# Altium schematic symbol library BlocBatteries.SCHLIB: 28 symbols
Pins are listed as number, name and electrical type; pins without a type are passive.

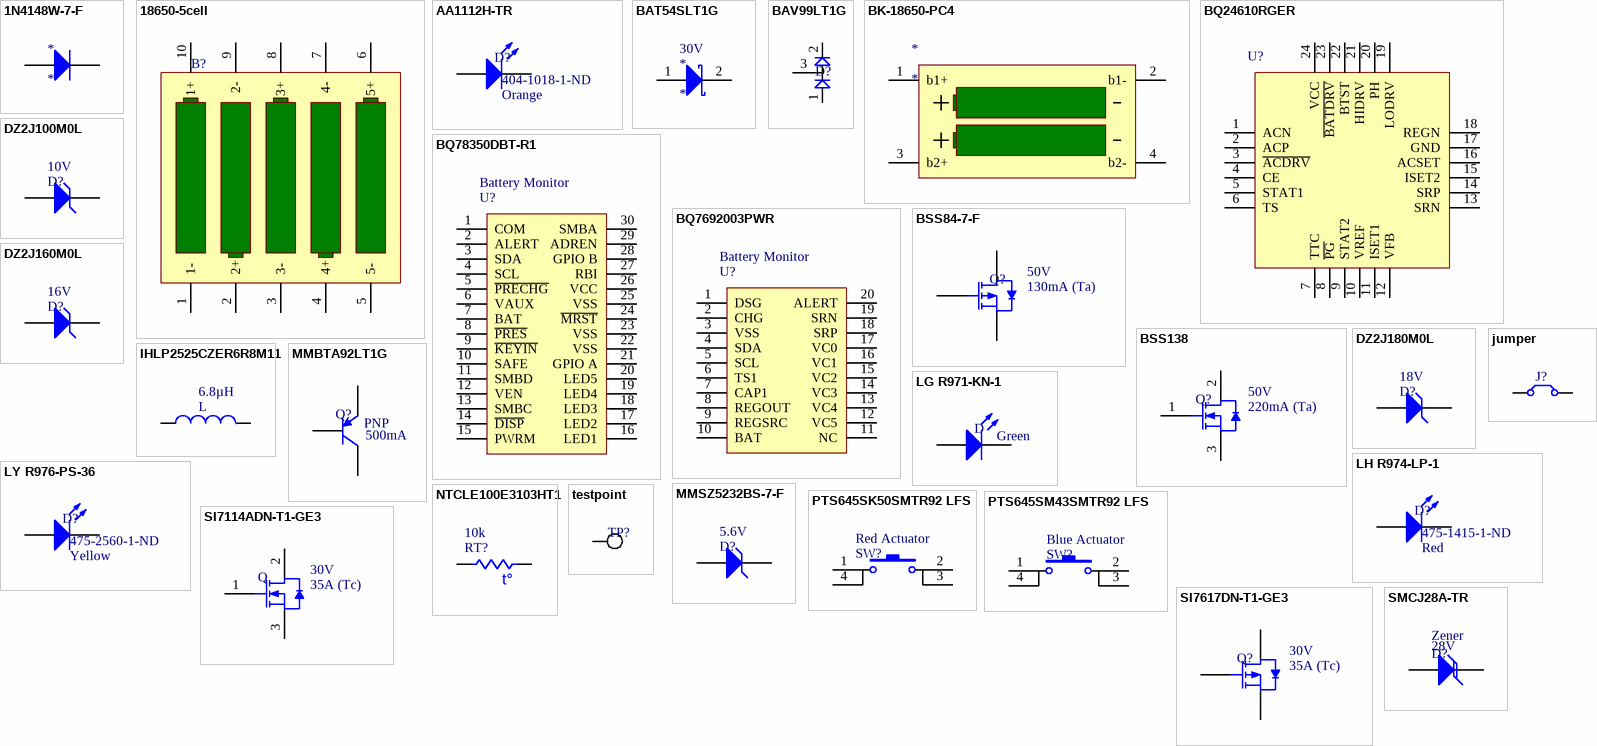
[diagram p0: symbols 1N4148W-7-F to testpoint]

## 1N4148W-7-F
designator *
DIODE GEN PURP 100V 300MA SOD123; Manufacturer: Diodes Incorporated; Manufacturer Part Number: 1N4148W-7-F; Diode Type: Standard; Current - Average Rectified (Io): 300mA (DC); Voltage - Forward (Vf) (Max) @ If: 1.25V @ 150mA; Speed: Small Signal =< 200mA (Io), Any Speed; Reverse Recovery Time (trr): 4ns; Current - Reverse Leakage @ Vr: 1µA @ 75V; Capacitance @ Vr, F: 2pF @ 0V, 1MHz; Supplier 1: Digi-Key; Supplier Part Number 1: 1N4148W-FDICT-ND; RoHS: RoHS Compliant; Category: Discrete Semiconductor Products; Stock 1: 876946; Pricing 1: 1=0.23, 10=0.212, 100=0.1153, 500=0.07086, 1000=0.04833 (CAD); Packaging: Cut Tape (CT); Voltage - DC Reverse (Vr) (Max): 100V; Mounting Type: Surface Mount; Package / Case: SOD-123; Supplier Device Package: SOD-123; Operating Temperature - Junction: -65°C ~ 150°C; ComponentLink1URL: http://www.diodes.com/_files/datasheets/ds30086.pdf; ComponentLink1Description: http://www.diodes.com/_files/datasheets/ds30086.pdf
footprint SOD123 (Molded Diode, 2-Leads, Body 2,70x1,55mm, IPC Medium Density)
pins: 1 A, 2 K

## 18650-5cell
designator B?
BATT LI-ION 5 CELL; Battery Cell Size: 18650
pins: 1 1-, 2 2+, 3 3-, 4 4+, 5 5-, 6 5+, 7 4-, 8 3+, 9 2-, 10 1+

## AA1112H-TR
designator D?  Supplier Part Number 1: 404-1018-1-ND  Color: Orange  (hidden comment: *)
LED ORANGE DIFFUSED 0805 SMD; Manufacturer: Stanley Electric Co; Manufacturer Part Number: AA1112H-TR; Lens Color: White; Millicandela Rating: 3.7mcd; Lens Style/Size: Rectangle with Flat Top, 1.20mm x 1.25mm; Voltage - Forward (Vf) (Typ): 2.2V; Current - Test: 20mA; Viewing Angle: 153°, 154°; Wavelength - Dominant: 606nm; Wavelength - Peak: 605nm; Supplier 1: Digi-Key; RoHS: RoHS Compliant; Category: Optoelectronics; Stock 1: 7828; Pricing 1: 1=0.65, 10=0.458, 25=0.3752, 100=0.3003, 250=0.2252, 1000=0.16379 (CAD); Packaging: Cut Tape (CT); Lens Transparency: Diffused; Mounting Type: Surface Mount; Features: -; Package / Case: 0805 (2012 Metric); Supplier Device Package: 2125; Size / Dimension: 2.00mm L x 1.25mm W; Height (Max): 0.90mm; ComponentLink1URL: http://media.digikey.com/pdf/Data%20Sheets/Stanley%20Electric%20PDFs/BR1112H.pdf; ComponentLink1Description: http://media.digikey.com/pdf/Data%20Sheets/Stanley%20Electric%20PDFs/BR1112H.pdf
footprint 0805 (Chip Capacitor, 2-Leads, Body 2,00x1,25mm, IPC Medium Density)
pins: 1 A, 2 K

## BAT54SLT1G
designator *  Voltage - DC Reverse (Vr) (Max): 30V
DIODE ARRAY SCHOTTKY 30V SOT23-3; Manufacturer: ON Semiconductor; Manufacturer Part Number: BAT54SLT1G; Diode Configuration: 1 Pair Series Connection; Current - Average Rectified (Io) (per Diode): 200mA (DC); Voltage - Forward (Vf) (Max) @ If: 800mV @ 100mA; Speed: Small Signal =< 200mA (Io), Any Speed; Reverse Recovery Time (trr): 5ns; Current - Reverse Leakage @ Vr: 2µA @ 25V; Supplier 1: Digi-Key; Supplier Part Number 1: BAT54SLT1GOSCT-ND; RoHS: RoHS Compliant; Category: Discrete Semiconductor Products; Stock 1: 85691; Pricing 1: 1=0.24, 10=0.225, 100=0.1226, 500=0.07536, 1000=0.0514 (CAD); Packaging: Cut Tape (CT); Diode Type: Schottky; Mounting Type: Surface Mount; Package / Case: TO-236-3, SC-59, SOT-23-3; Supplier Device Package: SOT-23-3 (TO-236); ComponentLink1URL: http://www.onsemi.com/pub_link/Collateral/BAT54SLT1-D.PDF; ComponentLink1Description: http://www.onsemi.com/pub_link/Collateral/BAT54SLT1-D.PDF
footprint SOT-23-3 (SOT23, 3-Leads, Body 2,90x2,45mm, Pitch 0,95mm, IPC Medium Density)
pins: 1 A, 2 K

## BAV99LT1G
designator D?  (value not drawn)
DIODE ARRAY GP 70V 215MA SOT23-3; Manufacturer: ON Semiconductor; Manufacturer Part Number: BAV99LT1G; Diode Configuration: 1 Pair Series Connection; Diode Type: Standard; Current - Average Rectified (Io) (per Diode): 215mA (DC); Voltage - Forward (Vf) (Max) @ If: 1.25V @ 150mA; Speed: Fast Recovery =< 500ns, > 200mA (Io); Reverse Recovery Time (trr): 6ns; Current - Reverse Leakage @ Vr: 2.5µA @ 70V; Supplier 1: Digi-Key; Supplier Part Number 1: BAV99LT1GOSCT-ND; RoHS: RoHS Compliant; Category: Discrete Semiconductor Products; Stock 1: 204227; Pricing 1: 1=0.17, 10=0.158, 100=0.0859, 500=0.0528, 1000=0.03603 (CAD); Packaging: Cut Tape (CT); Voltage - DC Reverse (Vr) (Max): 70V; Mounting Type: Surface Mount; Package / Case: TO-236-3, SC-59, SOT-23-3; Supplier Device Package: SOT-23-3 (TO-236); ComponentLink1URL: http://www.onsemi.com/pub_link/Collateral/BAV99LT1-D.PDF; ComponentLink1Description: http://www.onsemi.com/pub_link/Collateral/BAV99LT1-D.PDF
footprint SOT-23-3 (SOT23, 3-Leads, Body 2,90x2,45mm, Pitch 0,95mm, IPC Medium Density)
pins: 1 bottom, 2 top, 3 center

## BK-18650-PC4
designator *
HOLDER BATT LI-ION 2CELL 4PC PIN; Manufacturer: MPD (Memory Protection Devices); Manufacturer Part Number: BK-18650-PC4; Battery Type, Function: Cylindrical, Holder; Style: Holder (Open); Battery Cell Size: 18650; Number of Cells: 2; Supplier 1: Digi-Key; Supplier Part Number 1: BK-18650-PC4-ND; RoHS: RoHS Compliant; Category: Battery Products; Stock 1: 1925; Pricing 1: 1=6.37, 10=5.9, 100=5.3175, 500=4.67772, 1000=4.16587 (CAD); Battery Series: -; Mounting Type: PCB, Through Hole; Termination Style: PC Pin; Height Above Board: 0.848" (21.54mm); Operating Temperature: -; ComponentLink1URL: http://www.memoryprotectiondevices.com/datasheets/BK-18650-PC4-datasheet.pdf; ComponentLink1Description: http://www.memoryprotectiondevices.com/datasheets/BK-18650-PC4-datasheet.pdf
footprint BK-18650 (2cell holder for 18650 li-ion batt)
pins: 1 b1+, 2 b1-, 3 b2+, 4 b2-

## BQ24610RGER
designator U?  (value not drawn)
IC SYNC SW-MODE BAT CHRGR 24VQFN; Manufacturer: Texas Instruments; Manufacturer Part Number: BQ24610RGER; Battery Chemistry: Lithium-Ion/Polymer; Number of Cells: 1 ~ 6; Current - Charging: Constant - Programmable; Programmable Features: Current; Fault Protection: Over Current, Over Temperature, Over Voltage, Short Circuit; Charge Current - Max: 10A; Battery Pack Voltage: 2.1V; Voltage - Supply (Max): 28V; Supplier 1: Digi-Key; Supplier Part Number 1: 296-29437-1-ND; RoHS: RoHS Compliant; Category: Integrated Circuits (ICs); Stock 1: 4923; Pricing 1: 1=9.61, 10=8.622, 100=7.0732, 500=6.01742, 1000=4.39869 (CAD); Packaging: Cut Tape (CT); Interface: -; Operating Temperature: 0°C ~ 125°C (TJ); Package / Case: 24-VFQFN Exposed Pad; Supplier Device Package: 24-VQFN (4x4); ComponentLink1URL: http://www.ti.com/lit/ds/symlink/bq24610.pdf; ComponentLink1Description: http://www.ti.com/lit/ds/symlink/bq24610.pdf
footprint VQFN-24 (QFN, 24-Leads, Body 4,00x4,00mm, Pitch 0,50mm, Thermal Pad 2,45x2,45mm, IPC Medium Density)
pins: 1 ACN, 2 ACP, 3 ~{ACDRV}, 4 CE, 5 STAT1, 6 TS, 7 TTC, 8 ~{PG}, 9 STAT2, 10 VREF, 11 ISET1, 12 VFB, 13 SRN, 14 SRP, 15 ISET2, 16 ACSET, 17 GND, 18 REGN, 19 LODRV, 20 PH, 21 HIDRV, 22 BTST, 23 ~{BATDRV}, 24 VCC

## BQ78350DBT-R1
designator U?  Function: Battery Monitor  (hidden comment: *)
IC BATTERY MGMT CTRLR 30TSSOP; Manufacturer: Texas Instruments; Manufacturer Part Number: BQ78350DBT-R1; Battery Chemistry: Multi-Chemistry; Number of Cells: 1 ~ 10; Fault Protection: Over Current, Over Temperature, Over/Under Voltage; Interface: SMBus; Drawing Number: 296; 4073252-5; DBT; 30; Supplier 1: Digi-Key; Supplier Part Number 1: 296-42995-5-ND; RoHS: RoHS Compliant; Category: Integrated Circuits (ICs); Stock 1: 0; Pricing 1: 1=8.18, 10=7.346, 100=6.0192, 500=5.12396, 1000=3.85841 (CAD); Packaging: Tube; Operating Temperature: -40°C ~ 85°C (TA); Package / Case: 30-TFSOP (0.173", 4.40mm Width); Supplier Device Package: 30-TSSOP; ComponentLink1URL: http://www.ti.com/lit/ds/symlink/bq78350-r1.pdf; ComponentLink1Description: http://www.ti.com/lit/ds/symlink/bq78350-r1.pdf
footprint TSSOP-30 (TSSOP, 30-Leads, Body 7,80x4,40mm, Pitch 0,50mm, IPC Medium Density)
pins: 1 COM, 2 ALERT, 3 SDA, 4 SCL, 5 ~{PRECHG}, 6 VAUX, 7 BAT, 8 ~{PRES}, 9 ~{KEYIN}, 10 SAFE, 11 SMBD, 12 VEN, 13 SMBC, 14 ~{DISP}, 15 PWRM, 16 LED1, 17 LED2, 18 LED3, 19 LED4, 20 LED5, 21 GPIO A, 22 VSS, 23 VSS, 24 ~{MRST}, 25 VSS, 26 VCC, 27 RBI, 28 GPIO B, 29 ADREN, 30 SMBA

## BQ7692003PWR
designator U?  Function: Battery Monitor  (hidden comment: *)
IC BATT MGMT LI-ION AFE 20TSSOP; Manufacturer: Texas Instruments; Manufacturer Part Number: BQ7692003PWR; Battery Chemistry: Multi-Chemistry; Number of Cells: 3 ~ 5; Fault Protection: Over Current, Over/Under Voltage, Short Circuit; Interface: I²C; Drawing Number: 296; 4040064-5; PW; 20; Supplier 1: Digi-Key; Supplier Part Number 1: 296-39959-1-ND; RoHS: RoHS Compliant; Category: Integrated Circuits (ICs); Stock 1: 717; Pricing 1: 1=5.25, 10=4.703, 100=3.858, 500=3.28222, 1000=2.39928 (CAD); Packaging: Cut Tape (CT); Operating Temperature: -40°C ~ 85°C (TA); Package / Case: 20-TSSOP (0.173", 4.40mm Width); Supplier Device Package: 20-TSSOP; ComponentLink1URL: http://www.ti.com/lit/ds/symlink/bq76920.pdf; ComponentLink1Description: http://www.ti.com/lit/ds/symlink/bq76920.pdf
footprint TSSOP-20 (TSOP, 20-Leads, Body 6,50x4,40mm, Pitch 0,65mm, IPC Medium Density)
pins: 1 DSG, 2 CHG, 3 VSS, 4 SDA, 5 SCL, 6 TS1, 7 CAP1, 8 REGOUT, 9 REGSRC, 10 BAT, 11 NC, 12 VC5, 13 VC4, 14 VC3, 15 VC2, 16 VC1, 17 VC0, 18 SRP, 19 SRN, 20 ALERT

## BSS84-7-F
designator Q?  Drain to Source Voltage (Vdss): 50V  Current - Continuous Drain (Id) @ 25°C: 130mA (Ta)  (hidden comment: *)
MOSFET P-CH 50V 130MA SOT23-3; Manufacturer: Diodes Incorporated; Manufacturer Part Number: BSS84-7-F; FET Type: MOSFET P-Channel, Metal Oxide; FET Feature: Standard; Rds On (Max) @ Id, Vgs: 10 Ohm @ 100mA, 5V; Vgs(th) (Max) @ Id: 2V @ 1mA; Input Capacitance (Ciss) @ Vds: 45pF @ 25V; Power - Max: 300mW; Supplier 1: Digi-Key; Supplier Part Number 1: BSS84-FDICT-ND; RoHS: RoHS Compliant; Category: Discrete Semiconductor Products; Stock 1: 64867; Pricing 1: 1=0.34, 10=0.276, 100=0.146, 500=0.09606, 1000=0.06545 (CAD); Packaging: Cut Tape (CT); Gate Charge (Qg) @ Vgs: -; Operating Temperature: -55°C ~ 150°C (TJ); Mounting Type: Surface Mount; Package / Case: TO-236-3, SC-59, SOT-23-3; Supplier Device Package: SOT-23-3; ComponentLink1URL: http://www.diodes.com/_files/datasheets/ds30149.pdf; ComponentLink1Description: http://www.diodes.com/_files/datasheets/ds30149.pdf
footprint SOT-23-3 (SOT23, 3-Leads, Body 2,90x2,45mm, Pitch 0,95mm, IPC Medium Density)
pins: 1 G, 2 D, 3 S

## BSS138
designator Q?  Drain to Source Voltage (Vdss): 50V  Current - Continuous Drain (Id) @ 25°C: 220mA (Ta)  (hidden comment: *)
MOSFET N-CH 50V 220MA SOT-23; Manufacturer: Fairchild Semiconductor; Manufacturer Part Number: BSS138; FET Type: MOSFET N-Channel, Metal Oxide; FET Feature: Logic Level Gate; Rds On (Max) @ Id, Vgs: 3.5 Ohm @ 220mA, 10V; Vgs(th) (Max) @ Id: 1.5V @ 1mA; Gate Charge (Qg) @ Vgs: 2.4nC @ 10V; Input Capacitance (Ciss) @ Vds: 27pF @ 25V; Power - Max: 360mW; Supplier 1: Digi-Key; Supplier Part Number 1: BSS138CT-ND; RoHS: RoHS Compliant; Category: Discrete Semiconductor Products; Stock 1: 202195; Pricing 1: 1=0.31, 10=0.253, 100=0.1344, 500=0.08836, 1000=0.0602 (CAD); Packaging: Cut Tape (CT); Operating Temperature: -55°C ~ 150°C (TJ); Mounting Type: Surface Mount; Package / Case: TO-236-3, SC-59, SOT-23-3; Supplier Device Package: SOT-23-3; ComponentLink1URL: http://www.fairchildsemi.com/datasheets/BS/BSS138.pdf; ComponentLink1Description: http://www.fairchildsemi.com/datasheets/BS/BSS138.pdf
footprint SOT-23-3 (SOT23, 3-Leads, Body 2,90x2,45mm, Pitch 0,95mm, IPC Medium Density)
pins: 1 G, 2 D, 3 S

## DZ2J100M0L
designator D?  Voltage - Zener (Nom) (Vz): 10V  (hidden comment: *)
DIODE ZENER 10V 200MW SMINI2; Manufacturer: Panasonic Electronic Components; Manufacturer Part Number: DZ2J100M0L; Tolerance: ±5%; Impedance (Max) (Zzt): 30 Ohm; Current - Reverse Leakage @ Vr: 50nA @ 7V; Voltage - Forward (Vf) (Max) @ If: 1V @ 10mA; Supplier 1: Digi-Key; Supplier Part Number 1: DZ2J100M0LCT-ND; RoHS: RoHS Compliant; Category: Discrete Semiconductor Products; Stock 1: 18966; Pricing 1: 1=0.14, 10=0.055, 25=0.0448, 100=0.035, 250=0.034, 500=0.03304, 1000=0.03003 (CAD); Packaging: Cut Tape (CT); Power - Max: 200mW; Operating Temperature: -; Mounting Type: Surface Mount; Package / Case: SC-90, SOD-323F; Supplier Device Package: SMini2-F5-B; ComponentLink1URL: http://industrial.panasonic.com/www-cgi/jvcr13pz.cgi?E+SC+4+CDH7004+DZ2J100+8+WW; ComponentLink1Description: http://industrial.panasonic.com/www-cgi/jvcr13pz.cgi?E+SC+4+CDH7004+DZ2J100+8+WW
footprint SOD-323F (Molded Diode, 2-Leads, Body 1,70x1,25mm, IPC Medium Density)
pins: 1 A, 2 K

## DZ2J160M0L
designator D?  Voltage - Zener (Nom) (Vz): 16V  (hidden comment: *)
DIODE ZENER 16V 200MW SMINI2; Manufacturer: Panasonic Electronic Components; Manufacturer Part Number: DZ2J160M0L; Tolerance: ±5%; Impedance (Max) (Zzt): 50 Ohm; Current - Reverse Leakage @ Vr: 50nA @ 12V; Voltage - Forward (Vf) (Max) @ If: 1V @ 10mA; Supplier 1: Digi-Key; Supplier Part Number 1: DZ2J160M0LCT-ND; RoHS: RoHS Compliant; Category: Discrete Semiconductor Products; Stock 1: 10539; Pricing 1: 1=0.14, 10=0.055, 25=0.0448, 100=0.035, 250=0.034, 500=0.03304, 1000=0.03003 (CAD); Packaging: Cut Tape (CT); Power - Max: 200mW; Operating Temperature: -; Mounting Type: Surface Mount; Package / Case: SC-90, SOD-323F; Supplier Device Package: SMini2-F5-B; ComponentLink1URL: http://industrial.panasonic.com/www-cgi/jvcr13pz.cgi?E+SC+4+CDH7004+DZ2J160+8+WW; ComponentLink1Description: http://industrial.panasonic.com/www-cgi/jvcr13pz.cgi?E+SC+4+CDH7004+DZ2J160+8+WW
footprint SOD-323F (Molded Diode, 2-Leads, Body 1,70x1,25mm, IPC Medium Density)
pins: 1 A, 2 K

## DZ2J180M0L
designator D?  Voltage - Zener (Nom) (Vz): 18V  (hidden comment: *)
DIODE ZENER 18V 200MW SMINI2; Manufacturer: Panasonic Electronic Components; Manufacturer Part Number: DZ2J180M0L; Tolerance: ±5%; Impedance (Max) (Zzt): 60 Ohm; Current - Reverse Leakage @ Vr: 50nA @ 13V; Voltage - Forward (Vf) (Max) @ If: 1V @ 10mA; Supplier 1: Digi-Key; Supplier Part Number 1: DZ2J180M0LCT-ND; RoHS: RoHS Compliant; Category: Discrete Semiconductor Products; Stock 1: 7928; Pricing 1: 1=0.14, 10=0.055, 25=0.0448, 100=0.035, 250=0.034, 500=0.03304, 1000=0.03003 (CAD); Packaging: Cut Tape (CT); Power - Max: 200mW; Operating Temperature: -; Mounting Type: Surface Mount; Package / Case: SC-90, SOD-323F; Supplier Device Package: SMini2-F5-B; ComponentLink1URL: http://media.digikey.com/pdf/Data%20Sheets/Panasonic%20Semiconductors%20ICs%20PDFs/DZ2J180.pdf; ComponentLink1Description: http://media.digikey.com/pdf/Data%20Sheets/Panasonic%20Semiconductors%20ICs%20PDFs/DZ2J180.pdf
footprint SOD-323F (Molded Diode, 2-Leads, Body 1,70x1,25mm, IPC Medium Density)
pins: 1 A, 2 K

## IHLP2525CZER6R8M11
designator L  Inductance: 6.8µH  (hidden comment: *)
FIXED IND 6.8UH 5.5A 46.8 MOHM; Manufacturer: Vishay Dale; Manufacturer Part Number: IHLP2525CZER6R8M11; Material - Core: Powdered Iron; Tolerance: ±20%; Current - Saturation: 4A; Shielding: Shielded; DC Resistance (DCR): 46.8 mOhm Max; Frequency - Test: 100kHz; Supplier 1: Digi-Key; Supplier Part Number 1: 541-2582-1-ND; RoHS: RoHS Compliant; Category: Inductors, Coils, Chokes; Stock 1: 3980; Pricing 1: 1=2.79, 10=2.612, 25=2.4376, 50=2.0894, 100=1.9849, 250=1.8108, 500=1.60186, 1000=1.46256 (CAD); Packaging: Cut Tape (CT); Type: Molded; Current Rating: 5.5A; Q @ Freq: -; Frequency - Self Resonant: -; Ratings: -; Operating Temperature: -55°C ~ 125°C; Mounting Type: Surface Mount; Package / Case: Nonstandard; Size / Dimension: 0.270" L x 0.255" W (6.86mm x 6.47mm); Height - Seated (Max): 0.118" (3.00mm); ComponentLink1URL: http://www.vishay.com/docs/34190/ihlp25cz.pdf; ComponentLink1Description: http://www.vishay.com/docs/34190/ihlp25cz.pdf
footprint INDM6965X30N (Molded Inductor, 2-Leads, Body 6,86x6,47mm, IPC Medium Density)
pins: 1, 2

## jumper
designator J?  (value not drawn)
footprint 0805 (Chip Capacitor, 2-Leads, Body 2,00x1,25mm, IPC Medium Density)
pins: 1, 2

## LG R971-KN-1
designator D  Color: Green  (hidden comment: *)
LED GREEN DIFFUSED 0805 SMD; Manufacturer: OSRAM Opto Semiconductors Inc.; Manufacturer Part Number: LG R971-KN-1; Lens Color: White; Millicandela Rating: 26.05mcd; Lens Style/Size: Rectangle with Flat Top, 1.30mm x 1.25mm; Voltage - Forward (Vf) (Typ): 2.2V; Current - Test: 20mA; Viewing Angle: 160°; Wavelength - Dominant: 570nm; Wavelength - Peak: 572nm; Supplier 1: Digi-Key; Supplier Part Number 1: 475-1410-1-ND; RoHS: RoHS Compliant; Category: Optoelectronics; Stock 1: 315869; Pricing 1: 1=0.37, 10=0.267, 25=0.1972, 100=0.141, 250=0.09588, 500=0.0846, 1000=0.06626 (CAD); Packaging: Cut Tape (CT); Lens Transparency: Diffused; Mounting Type: Surface Mount; Features: -; Package / Case: 0805 (2012 Metric); Supplier Device Package: *; Size / Dimension: 2.00mm L x 1.25mm W; Height (Max): 0.90mm; ComponentLink1URL: http://www.osram-os.com/Graphics/XPic9/00078860_0.pdf; ComponentLink1Description: http://www.osram-os.com/Graphics/XPic9/00078860_0.pdf
footprint 0805 (Chip Capacitor, 2-Leads, Body 2,00x1,25mm, IPC Medium Density)
pins: 1 A, 2 K

## LH R974-LP-1
designator D?  Supplier Part Number 1: 475-1415-1-ND  Color: Red  (hidden comment: *)
LED RED DIFFUSED 0805 SMD; Manufacturer: OSRAM Opto Semiconductors Inc.; Manufacturer Part Number: LH R974-LP-1; Lens Color: White; Millicandela Rating: 41mcd; Lens Style/Size: Rectangle with Flat Top, 1.30mm x 1.25mm; Voltage - Forward (Vf) (Typ): 1.8V; Current - Test: 20mA; Viewing Angle: 160°; Wavelength - Dominant: 645nm; Wavelength - Peak: 660nm; Supplier 1: Digi-Key; RoHS: RoHS Compliant; Category: Optoelectronics; Stock 1: 124060; Pricing 1: 1=0.37, 10=0.267, 25=0.1972, 100=0.141, 250=0.09588, 500=0.0846, 1000=0.06626 (CAD); Packaging: Cut Tape (CT); Lens Transparency: Diffused; Mounting Type: Surface Mount; Features: -; Package / Case: 0805 (2012 Metric); Supplier Device Package: *; Size / Dimension: 2.00mm L x 1.25mm W; Height (Max): 0.90mm; ComponentLink1URL: http://www.osram-os.com/Graphics/XPic8/00078869_0.pdf; ComponentLink1Description: http://www.osram-os.com/Graphics/XPic8/00078869_0.pdf
footprint 0805 (Chip Capacitor, 2-Leads, Body 2,00x1,25mm, IPC Medium Density)
pins: 1 A, 2 K

## LY R976-PS-36
designator D?  Supplier Part Number 1: 475-2560-1-ND  Color: Yellow  (hidden comment: *)
LED YELLOW DIFFUSED 0805 SMD; Manufacturer: OSRAM Opto Semiconductors Inc.; Manufacturer Part Number: LY R976-PS-36; Lens Color: White; Millicandela Rating: 162.5mcd; Lens Style/Size: Rectangle with Flat Top, 1.30mm x 1.25mm; Voltage - Forward (Vf) (Typ): 2V; Current - Test: 20mA; Viewing Angle: 160°; Wavelength - Dominant: 588nm; Wavelength - Peak: 591nm; Supplier 1: Digi-Key; RoHS: RoHS Compliant; Category: Optoelectronics; Stock 1: 102790; Pricing 1: 1=0.38, 10=0.282, 25=0.2076, 100=0.1484, 250=0.10088, 500=0.08904, 1000=0.06974 (CAD); Packaging: Cut Tape (CT); Lens Transparency: Diffused; Mounting Type: Surface Mount; Features: -; Package / Case: 0805 (2012 Metric); Supplier Device Package: 0805; Size / Dimension: 2.00mm L x 1.25mm W; Height (Max): 0.90mm; ComponentLink1URL: http://www.osram-os.com/Graphics/XPic9/00078941_0.pdf; ComponentLink1Description: http://www.osram-os.com/Graphics/XPic9/00078941_0.pdf
footprint 0805 (Chip Capacitor, 2-Leads, Body 2,00x1,25mm, IPC Medium Density)
pins: 1 A, 2 K

## MMBTA92LT1G
designator Q?  Transistor Type: PNP  Current - Collector (Ic) (Max): 500mA  (hidden comment: *)
TRANS PNP 300V 0.5A SOT23; Manufacturer: ON Semiconductor; Manufacturer Part Number: MMBTA92LT1G; Vce Saturation (Max) @ Ib, Ic: 500mV @ 2mA, 20mA; Current - Collector Cutoff (Max): 250nA (ICBO); DC Current Gain (hFE) (Min) @ Ic, Vce: 25 @ 30mA, 10V; Power - Max: 300mW; Frequency - Transition: 50MHz; Supplier 1: Digi-Key; Supplier Part Number 1: MMBTA92LT1GOSCT-ND; RoHS: RoHS Compliant; Category: Discrete Semiconductor Products; Stock 1: 2785; Pricing 1: 1=0.28, 10=0.262, 100=0.1425, 500=0.08758, 1000=0.05974 (CAD); Packaging: Cut Tape (CT); Voltage - Collector Emitter Breakdown (Max): 300V; Mounting Type: Surface Mount; Package / Case: TO-236-3, SC-59, SOT-23-3; Supplier Device Package: SOT-23-3 (TO-236); ComponentLink1URL: http://www.onsemi.com/pub_link/Collateral/MMBTA92LT1-D.PDF; ComponentLink1Description: http://www.onsemi.com/pub_link/Collateral/MMBTA92LT1-D.PDF
footprint SOT-23-3 (SOT23, 3-Leads, Body 2,90x2,45mm, Pitch 0,95mm, IPC Medium Density)
pins: 1 C, 2 B, 3 E

## MMSZ5232BS-7-F
designator D?  Voltage - Zener (Nom) (Vz): 5.6V  (hidden comment: *)
DIODE ZENER 5.6V 200MW SOD323; Manufacturer: Diodes Incorporated; Manufacturer Part Number: MMSZ5232BS-7-F; Tolerance: ±5%; Impedance (Max) (Zzt): 11 Ohm; Current - Reverse Leakage @ Vr: 5µA @ 3V; Voltage - Forward (Vf) (Max) @ If: 900mV @ 10mA; Supplier 1: Digi-Key; Supplier Part Number 1: MMSZ5232BS-FDICT-ND; RoHS: RoHS Compliant; Category: Discrete Semiconductor Products; Stock 1: 18561; Pricing 1: 1=0.47, 10=0.351, 100=0.1988, 500=0.1318, 1000=0.10109 (CAD); Packaging: Cut Tape (CT); Power - Max: 200mW; Operating Temperature: -65°C ~ 150°C; Mounting Type: Surface Mount; Package / Case: SC-76, SOD-323; Supplier Device Package: SOD-323; ComponentLink1URL: http://www.diodes.com/_files/datasheets/ds31038.pdf; ComponentLink1Description: http://www.diodes.com/_files/datasheets/ds31038.pdf
footprint SOD-323F (Molded Diode, 2-Leads, Body 1,70x1,25mm, IPC Medium Density)
pins: 1 A, 2 K

## NTCLE100E3103HT1
designator RT?  Resistance in Ohms @ 25°C: 10k  (hidden comment: *)
THERMISTOR NTC 10K 3% RADIAL; Manufacturer: Vishay BC Components; Manufacturer Part Number: NTCLE100E3103HT1; B Value Tolerance: ±0.75%; B25/85: 3977K; Power - Max: 500mW; Supplier 1: Digi-Key; Supplier Part Number 1: BC2395CT-ND; RoHS: RoHS Compliant; Category: Sensors, Transducers; Stock 1: 32497; Pricing 1: 1=0.68, 10=0.465, 50=0.4382, 100=0.3903, 250=0.38336, 500=0.36284 (CAD); Packaging: Cut Tape (CT); Resistance Tolerance: ±3%; B0/50: -; B25/50: -; B25/75: -; B25/100: -; Operating Temperature: -40°C ~ 125°C; Length - Lead Wire: 0.59" (15.00mm); Mounting Type: Through Hole; Package / Case: Bead; ComponentLink1URL: http://www.vishay.com/docs/29049/ntcle100.pdf; ComponentLink1Description: http://www.vishay.com/docs/29049/ntcle100.pdf
footprint NTCLE100E3
pins: 1, 2
text: t°

## PTS645SK50SMTR92 LFS
designator SW?  Features: Red Actuator  (hidden comment: *)
SWITCH TACTILE SPST-NO 0.05A 12V; Manufacturer: C&K Components; Manufacturer Part Number: PTS645SK50SMTR92 LFS; Switch Function: Off-Mom; Contact Rating @ Voltage: 0.05A @ 12VDC; Actuator Type: Standard; Actuator Height off PCB, from Pins: 5.00mm; Actuator Orientation: Top Actuated; Outline: 6.00mm x 6.00mm; Illumination: Non-Illuminated; Operating Force: 260gf; Actuator Material: Polyamide (PA66), Nylon 6/6; Mechanical Life: 100,000 Cycles; Supplier 1: Digi-Key; Supplier Part Number 1: CKN9087CT-ND; RoHS: RoHS Compliant; Category: Switches; Stock 1: 73782; Pricing 1: 1=0.38, 10=0.362, 25=0.35, 50=0.3374, 100=0.3186, 250=0.29976, 500=0.2873 (CAD); Packaging: Cut Tape (CT); Circuit: SPST-NO; Mounting Type: Surface Mount; Termination Style: Gull Wing; Illumination Voltage (Nominal): -; Illumination Type, Color: -; Ingress Protection: -; Switch Travel: -; Operating Temperature: -20°C ~ 60°C; ComponentLink1URL: http://media.digikey.com/pdf/Data%20Sheets/C&K/PTS645_Series.pdf; ComponentLink1Description: http://media.digikey.com/pdf/Data%20Sheets/C&K/PTS645_Series.pdf
footprint 6 mm Tact Switches (SOP, 4-Leads, Body 6,20x6,20mm, Pitch 4,50mm, IPC Medium Density)
pins: 1, 2, 3, 4

## PTS645SM43SMTR92 LFS
designator SW?  Features: Blue Actuator  (hidden comment: *)
SWITCH TACTILE SPST-NO 0.05A 12V; Manufacturer: C&K Components; Manufacturer Part Number: PTS645SM43SMTR92 LFS; Switch Function: Off-Mom; Contact Rating @ Voltage: 0.05A @ 12VDC; Actuator Type: Standard; Actuator Height off PCB, from Pins: 4.30mm; Actuator Orientation: Top Actuated; Outline: 6.00mm x 6.00mm; Illumination: Non-Illuminated; Operating Force: 160gf; Actuator Material: Polyamide (PA66), Nylon 6/6; Mechanical Life: 100,000 Cycles; Supplier 1: Digi-Key; Supplier Part Number 1: CKN9112CT-ND; RoHS: RoHS Compliant; Category: Switches; Stock 1: 189506; Pricing 1: 1=0.44, 10=0.425, 25=0.4108, 50=0.3958, 100=0.3737, 250=0.35176, 500=0.33708 (CAD); Packaging: Cut Tape (CT); Circuit: SPST-NO; Mounting Type: Surface Mount; Termination Style: Gull Wing; Illumination Voltage (Nominal): -; Illumination Type, Color: -; Ingress Protection: -; Switch Travel: -; Operating Temperature: -20°C ~ 60°C; ComponentLink1URL: http://media.digikey.com/pdf/Data%20Sheets/C&K/PTS645_Series.pdf; ComponentLink1Description: http://media.digikey.com/pdf/Data%20Sheets/C&K/PTS645_Series.pdf
footprint 6 mm Tact Switches (SOP, 4-Leads, Body 6,20x6,20mm, Pitch 4,50mm, IPC Medium Density)
pins: 1, 2, 3, 4

## SI7114ADN-T1-GE3
designator Q  Drain to Source Voltage (Vdss): 30V  Current - Continuous Drain (Id) @ 25°C: 35A (Tc)  (hidden comment: *)
MOSFET N-CH 30V 35A PPAK 1212-8; Manufacturer: Vishay Siliconix; Manufacturer Part Number: SI7114ADN-T1-GE3; FET Type: MOSFET N-Channel, Metal Oxide; FET Feature: Standard; Rds On (Max) @ Id, Vgs: 7.5 mOhm @ 18A, 10V; Vgs(th) (Max) @ Id: 2.5V @ 250µA; Gate Charge (Qg) @ Vgs: 32nC @ 10V; Input Capacitance (Ciss) @ Vds: 1230pF @ 15V; Power - Max: 39W; Supplier 1: Digi-Key; Supplier Part Number 1: SI7114ADN-T1-GE3CT-ND; RoHS: RoHS Compliant; Category: Discrete Semiconductor Products; Stock 1: 3921; Pricing 1: 1=1.32, 10=1.16, 25=1.0896, 100=0.8892, 250=0.82596, 500=0.70294, 1000=0.56235 (CAD); Packaging: Cut Tape (CT); Operating Temperature: -55°C ~ 150°C (TJ); Mounting Type: Surface Mount; Package / Case: PowerPAK® 1212-8; Supplier Device Package: PowerPAK® 1212-8; ComponentLink1URL: http://www.vishay.com/docs/68932/si7114ad.pdf; ComponentLink1Description: http://www.vishay.com/docs/68932/si7114ad.pdf
footprint PowerPAK 1212-8 (QFN, 10-Leads, Body 3,30x3,30mm, Pitch 0,65mm, Thermal Pad 2,11x2,11mm, IPC Medium Density)
pins: 1 G, 2 D, 3 S

## SI7617DN-T1-GE3
designator Q?  Drain to Source Voltage (Vdss): 30V  Current - Continuous Drain (Id) @ 25°C: 35A (Tc)  (hidden comment: *)
MOSFET P-CH 30V 35A 1212-8 PPAK; Manufacturer: Vishay Siliconix; Manufacturer Part Number: SI7617DN-T1-GE3; FET Type: MOSFET P-Channel, Metal Oxide; FET Feature: Standard; Rds On (Max) @ Id, Vgs: 12.3 mOhm @ 13.9A, 10V; Vgs(th) (Max) @ Id: 2.5V @ 250µA; Gate Charge (Qg) @ Vgs: 59nC @ 10V; Input Capacitance (Ciss) @ Vds: 1800pF @ 15V; Power - Max: 52W; Supplier 1: Digi-Key; Supplier Part Number 1: SI7617DN-T1-GE3CT-ND; RoHS: RoHS Compliant; Category: Discrete Semiconductor Products; Stock 1: 39013; Pricing 1: 1=1.24, 10=1.102, 25=1.046, 100=0.8589, 250=0.80288, 500=0.70954, 1000=0.56016 (CAD); Packaging: Cut Tape (CT); Operating Temperature: -55°C ~ 150°C (TJ); Mounting Type: Surface Mount; Package / Case: PowerPAK® 1212-8; Supplier Device Package: PowerPAK® 1212-8; ComponentLink1URL: http://www.vishay.com/docs/65164/si7617dn.pdf; ComponentLink1Description: http://www.vishay.com/docs/65164/si7617dn.pdf
footprint PowerPAK 1212-8 (QFN, 10-Leads, Body 3,30x3,30mm, Pitch 0,65mm, Thermal Pad 2,11x2,11mm, IPC Medium Density)
pins: 1 G, 2 D, 3 S

## SMCJ28A-TR
designator D?  Type: Zener  Voltage - Reverse Standoff (Typ): 28V  (hidden comment: *)
TVS DIODE 28VWM 59VC SMC; Manufacturer: STMicroelectronics; Manufacturer Part Number: SMCJ28A-TR; Unidirectional Channels: 1; Voltage - Breakdown (Min): 31.1V; Voltage - Clamping (Max) @ Ipp: 59V; Current - Peak Pulse (10/1000µs): 169A (8/20µs); Power - Peak Pulse: 1500W (1.5kW); Power Line Protection: No; Supplier 1: Digi-Key; Supplier Part Number 1: 497-15789-1-ND; RoHS: RoHS Compliant; Category: Circuit Protection; Stock 1: 4619; Pricing 1: 1=0.63, 10=0.539, 100=0.4027, 500=0.3163, 1000=0.24384 (CAD); Packaging: Cut Tape (CT); Bidirectional Channels: -; Applications: General Purpose; Capacitance @ Frequency: -; Operating Temperature: -55°C ~ 150°C (TJ); Mounting Type: Surface Mount; Package / Case: DO-214AB, SMC; Supplier Device Package: SMC (DO-214AB); ComponentLink1URL: http://www.st.com/web/en/resource/technical/document/datasheet/CD00001367.pdf; ComponentLink1Description: http://www.st.com/web/en/resource/technical/document/datasheet/CD00001367.pdf
footprint SMC (Molded Diode, 2-Leads, Body 7,95x5,90mm, IPC Medium Density)
pins: 1 A, 2 K

## testpoint
designator TP?
Testpoint
footprint 0805 testpoint (Chip Capacitor, 2-Leads, Body 2,00x1,25mm, IPC Medium Density)
pins: 1